# Altium footprint library MicroSMD_50P_V.PcbLib: 85 footprints (part 2 of 7)
Each footprint in its own frame and in the unit in brackets; x right, y up, seen from the top. Pads: shape width x height; smd on the part's side, far side on the other; paste and mask are expansions set on the pad; w line width, h text height; cw(c..) or ccw(c..) is an arc to the next point about the centre after c.
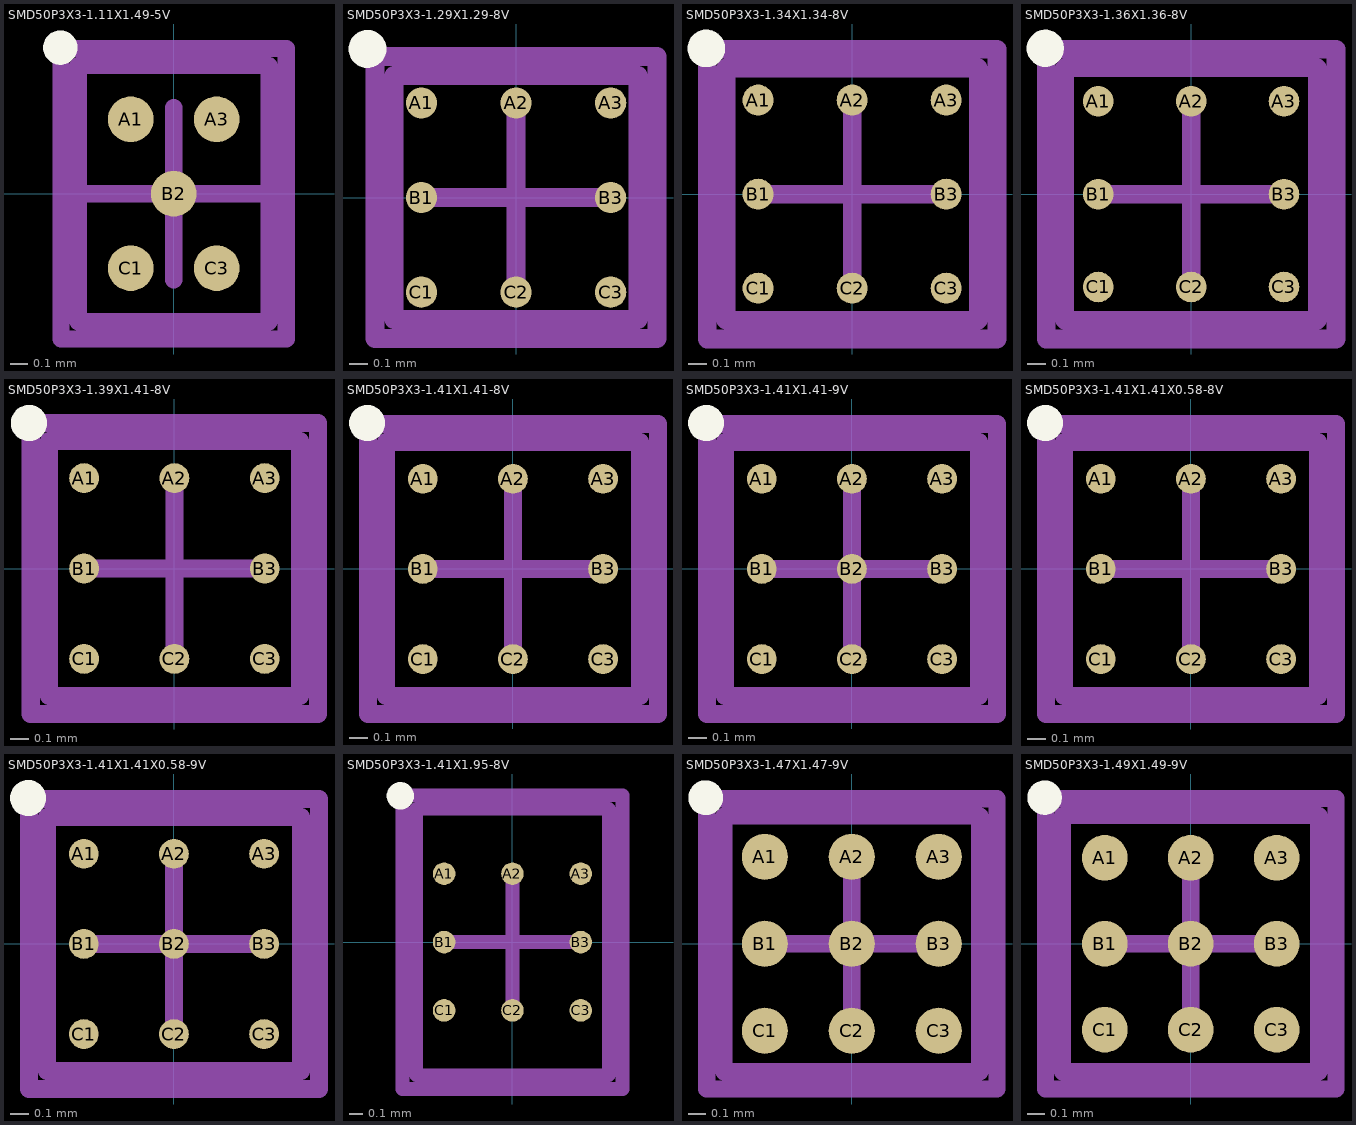
[diagram p1: the footprints below, top view; thin cyan lines are the x and y axes]

## SMD50P3X3-1.11X1.49-5V [mm] "Micro SMD, 5-Leads, Body 1.49x1.11mm, Pitch 0.5mm, NSC Recommended"
height 0.68
pads (5):
  round 0.265 smd paste-0.132 mask+0.05: A1(-0.25,0.433) A3(0.25,0.433) B2(0,0) C1(-0.25,-0.433) C3(0.25,-0.433)
Top Overlay:
  circle w0.1: c-0.66,0.85 r0.05
Top Paste:
  circle w0.05: c-0.35,0.383 r0.025
  circle w0.05: c-0.2,0.533 r0.025
  circle w0.05: c-0.2,0.383 r0.025
  circle w0.05: c-0.35,0.533 r0.025
  circle w0.05: c0.2,0.383 r0.025
  circle w0.05: c0.35,0.533 r0.025
  circle w0.05: c0.35,0.383 r0.025
  circle w0.05: c0.2,0.533 r0.025
  circle w0.05: c-0.075,-0.075 r0.025
  circle w0.05: c0.075,0.075 r0.025
  circle w0.05: c0.075,-0.075 r0.025
  circle w0.05: c-0.075,0.075 r0.025
  circle w0.05: c-0.35,-0.533 r0.025
  circle w0.05: c-0.2,-0.383 r0.025
  circle w0.05: c-0.2,-0.533 r0.025
  circle w0.05: c-0.35,-0.383 r0.025
  circle w0.05: c0.2,-0.533 r0.025
  circle w0.05: c0.35,-0.383 r0.025
  circle w0.05: c0.35,-0.533 r0.025
  circle w0.05: c0.2,-0.383 r0.025
  region: -0.35,0.533 -0.35,0.383 -0.2,0.383 -0.2,0.533
  region: -0.35,0.383 -0.35,0.533 -0.4,0.533 -0.4,0.383
  rectangle: -0.35,0.533 -0.2,0.583
  region: -0.2,0.533 -0.2,0.383 -0.15,0.383 -0.15,0.533
  region: -0.2,0.383 -0.35,0.383 -0.35,0.333 -0.2,0.333
  region: 0.2,0.533 0.2,0.383 0.35,0.383 0.35,0.533
  region: 0.2,0.383 0.2,0.533 0.15,0.533 0.15,0.383
  rectangle: 0.2,0.533 0.35,0.583
  region: 0.35,0.533 0.35,0.383 0.4,0.383 0.4,0.533
  region: 0.35,0.383 0.2,0.383 0.2,0.333 0.35,0.333
  region: -0.075,0.075 -0.075,-0.075 0.075,-0.075 0.075,0.075
  region: -0.075,-0.075 -0.075,0.075 -0.125,0.075 -0.125,-0.075
  rectangle: -0.075,0.075 0.075,0.125
  region: 0.075,0.075 0.075,-0.075 0.125,-0.075 0.125,0.075
  region: 0.075,-0.075 -0.075,-0.075 -0.075,-0.125 0.075,-0.125
  region: -0.35,-0.383 -0.35,-0.533 -0.2,-0.533 -0.2,-0.383
  region: -0.35,-0.533 -0.35,-0.383 -0.4,-0.383 -0.4,-0.533
  rectangle: -0.35,-0.383 -0.2,-0.333
  region: -0.2,-0.383 -0.2,-0.533 -0.15,-0.533 -0.15,-0.383
  region: -0.2,-0.533 -0.35,-0.533 -0.35,-0.583 -0.2,-0.583
  region: 0.2,-0.383 0.2,-0.533 0.35,-0.533 0.35,-0.383
  region: 0.2,-0.533 0.2,-0.383 0.15,-0.383 0.15,-0.533
  rectangle: 0.2,-0.383 0.35,-0.333
  region: 0.35,-0.383 0.35,-0.533 0.4,-0.533 0.4,-0.383
  region: 0.35,-0.533 0.2,-0.533 0.2,-0.583 0.35,-0.583
Mechanical 13:
  lines w0.1: -0.555,-0.745 0.555,-0.745 0.555,0.745 -0.555,0.745 -0.555,-0.745
Mechanical 15:
  lines w0.1: -0.5,0 0.5,0 ; 0,-0.5 0,0.5 ; -0.655,-0.845 0.655,-0.845 0.655,0.845 -0.655,0.845 -0.655,-0.845
3D body: height 0.68, standoff 0, extent -0.555,-0.745 0.555,0.745

## SMD50P3X3-1.29X1.29-8V [mm] "Micro SMD, 8-Leads, Body 1.29x1.29mm, Pitch 0.5mm, NSC Recommended"
height 0.58
pads (8):
  round 0.165 smd paste-0.082 mask+0.05: A1(-0.5,0.5) A2(0,0.5) A3(0.5,0.5) B1(-0.5,0) B3(0.5,0) C1(-0.5,-0.5) C2(0,-0.5) C3(0.5,-0.5)
Top Overlay:
  circle w0.1: c-0.785,0.785 r0.05
Top Paste:
  circle w0.05: c0.625,0.425 r0.025
  circle w0.05: c0.425,0.625 r0.025
  circle w0.05: c0.425,0.425 r0.025
  circle w0.05: c0.625,0.625 r0.025
  circle w0.05: c-0.425,0.425 r0.025
  circle w0.05: c-0.625,0.625 r0.025
  circle w0.05: c-0.625,0.425 r0.025
  circle w0.05: c-0.425,0.625 r0.025
  circle w0.05: c0.1,0.425 r0.025
  circle w0.05: c-0.1,0.625 r0.025
  circle w0.05: c-0.1,0.425 r0.025
  circle w0.05: c0.1,0.625 r0.025
  circle w0.05: c0.1,-0.425 r0.025
  circle w0.05: c-0.1,-0.625 r0.025
  circle w0.05: c-0.1,-0.425 r0.025
  circle w0.05: c0.1,-0.625 r0.025
  circle w0.05: c-0.425,-0.425 r0.025
  circle w0.05: c-0.625,-0.625 r0.025
  circle w0.05: c-0.625,-0.425 r0.025
  circle w0.05: c-0.425,-0.625 r0.025
  circle w0.05: c0.625,-0.425 r0.025
  circle w0.05: c0.425,-0.625 r0.025
  circle w0.05: c0.425,-0.425 r0.025
  circle w0.05: c0.625,-0.625 r0.025
  circle w0.05: c0.625,-0.1 r0.025
  circle w0.05: c0.425,0.1 r0.025
  circle w0.05: c0.425,-0.1 r0.025
  circle w0.05: c0.625,0.1 r0.025
  circle w0.05: c-0.425,0.1 r0.025
  circle w0.05: c-0.625,-0.1 r0.025
  circle w0.05: c-0.625,0.1 r0.025
  circle w0.05: c-0.425,-0.1 r0.025
  rectangle: 0.425,0.375 0.625,0.425
  region: 0.625,0.675 0.425,0.675 0.425,0.625 0.625,0.625
  region: 0.375,0.625 0.375,0.425 0.425,0.425 0.425,0.625
  region: 0.425,0.625 0.425,0.425 0.625,0.425 0.625,0.625
  region: 0.675,0.425 0.675,0.625 0.625,0.625 0.625,0.425
  rectangle: -0.625,0.375 -0.425,0.425
  region: -0.425,0.675 -0.625,0.675 -0.625,0.625 -0.425,0.625
  region: -0.675,0.625 -0.675,0.425 -0.625,0.425 -0.625,0.625
  region: -0.625,0.625 -0.625,0.425 -0.425,0.425 -0.425,0.625
  region: -0.375,0.425 -0.375,0.625 -0.425,0.625 -0.425,0.425
  rectangle: -0.1,0.375 0.1,0.425
  region: 0.1,0.675 -0.1,0.675 -0.1,0.625 0.1,0.625
  region: -0.15,0.625 -0.15,0.425 -0.1,0.425 -0.1,0.625
  region: -0.1,0.625 -0.1,0.425 0.1,0.425 0.1,0.625
  region: 0.15,0.425 0.15,0.625 0.1,0.625 0.1,0.425
  region: 0.15,-0.625 0.15,-0.425 0.1,-0.425 0.1,-0.625
  region: -0.1,-0.425 -0.1,-0.625 0.1,-0.625 0.1,-0.425
  region: -0.15,-0.425 -0.15,-0.625 -0.1,-0.625 -0.1,-0.425
  region: 0.1,-0.375 -0.1,-0.375 -0.1,-0.425 0.1,-0.425
  rectangle: -0.1,-0.675 0.1,-0.625
  region: -0.375,-0.625 -0.375,-0.425 -0.425,-0.425 -0.425,-0.625
  region: -0.625,-0.425 -0.625,-0.625 -0.425,-0.625 -0.425,-0.425
  region: -0.675,-0.425 -0.675,-0.625 -0.625,-0.625 -0.625,-0.425
  region: -0.425,-0.375 -0.625,-0.375 -0.625,-0.425 -0.425,-0.425
  rectangle: -0.625,-0.675 -0.425,-0.625
  region: 0.675,-0.625 0.675,-0.425 0.625,-0.425 0.625,-0.625
  region: 0.425,-0.425 0.425,-0.625 0.625,-0.625 0.625,-0.425
  region: 0.375,-0.425 0.375,-0.625 0.425,-0.625 0.425,-0.425
  region: 0.625,-0.375 0.425,-0.375 0.425,-0.425 0.625,-0.425
  rectangle: 0.425,-0.675 0.625,-0.625
  rectangle: 0.425,-0.15 0.625,-0.1
  region: 0.625,0.15 0.425,0.15 0.425,0.1 0.625,0.1
  region: 0.375,0.1 0.375,-0.1 0.425,-0.1 0.425,0.1
  region: 0.425,0.1 0.425,-0.1 0.625,-0.1 0.625,0.1
  region: 0.675,-0.1 0.675,0.1 0.625,0.1 0.625,-0.1
  region: -0.375,-0.1 -0.375,0.1 -0.425,0.1 -0.425,-0.1
  region: -0.625,0.1 -0.625,-0.1 -0.425,-0.1 -0.425,0.1
  region: -0.675,0.1 -0.675,-0.1 -0.625,-0.1 -0.625,0.1
  region: -0.425,0.15 -0.625,0.15 -0.625,0.1 -0.425,0.1
  rectangle: -0.625,-0.15 -0.425,-0.1
Mechanical 13:
  lines w0.1: -0.645,-0.645 0.645,-0.645 0.645,0.645 -0.645,0.645 -0.645,-0.645
Mechanical 15:
  lines w0.1: -0.5,0 0.5,0 ; 0,-0.5 0,0.5 ; -0.745,-0.745 0.745,-0.745 0.745,0.745 -0.745,0.745 -0.745,-0.745
3D body: height 0.58, standoff 0, extent -0.644,-0.644 0.644,0.644

## SMD50P3X3-1.34X1.34-8V [mm] "Micro SMD, 8-Leads, Body 1.34x1.34mm, Pitch 0.5mm, NSC Recommended"
height 0.95
pads (8):
  round 0.165 smd paste-0.082 mask+0.05: A1(-0.5,0.5) A2(0,0.5) A3(0.5,0.5) B1(-0.5,0) B3(0.5,0) C1(-0.5,-0.5) C2(0,-0.5) C3(0.5,-0.5)
Top Overlay:
  circle w0.1: c-0.775,0.775 r0.05
Top Paste:
  circle w0.05: c-0.625,-0.625 r0.025
  circle w0.05: c-0.425,-0.425 r0.025
  circle w0.05: c-0.625,-0.425 r0.025
  circle w0.05: c-0.425,-0.625 r0.025
  circle w0.05: c0.425,-0.625 r0.025
  circle w0.05: c0.625,-0.425 r0.025
  circle w0.05: c0.425,-0.425 r0.025
  circle w0.05: c0.625,-0.625 r0.025
  circle w0.05: c0.425,0.425 r0.025
  circle w0.05: c0.625,0.625 r0.025
  circle w0.05: c0.425,0.625 r0.025
  circle w0.05: c0.625,0.425 r0.025
  circle w0.05: c-0.625,0.425 r0.025
  circle w0.05: c-0.425,0.625 r0.025
  circle w0.05: c-0.625,0.625 r0.025
  circle w0.05: c-0.425,0.425 r0.025
  circle w0.05: c0.1,0.425 r0.025
  circle w0.05: c-0.1,0.625 r0.025
  circle w0.05: c0.1,0.625 r0.025
  circle w0.05: c-0.1,0.425 r0.025
  circle w0.05: c-0.1,-0.425 r0.025
  circle w0.05: c0.1,-0.625 r0.025
  circle w0.05: c-0.1,-0.625 r0.025
  circle w0.05: c0.1,-0.425 r0.025
  circle w0.05: c0.425,-0.1 r0.025
  circle w0.05: c0.625,0.1 r0.025
  circle w0.05: c0.625,-0.1 r0.025
  circle w0.05: c0.425,0.1 r0.025
  circle w0.05: c-0.425,0.1 r0.025
  circle w0.05: c-0.625,-0.1 r0.025
  circle w0.05: c-0.625,0.1 r0.025
  circle w0.05: c-0.425,-0.1 r0.025
  region: -0.425,-0.625 -0.625,-0.625 -0.625,-0.675 -0.425,-0.675
  rectangle: -0.625,-0.625 -0.425,-0.425
  rectangle: -0.625,-0.425 -0.425,-0.375
  region: -0.625,-0.625 -0.625,-0.425 -0.675,-0.425 -0.675,-0.625
  region: -0.425,-0.425 -0.425,-0.625 -0.375,-0.625 -0.375,-0.425
  region: 0.625,-0.625 0.425,-0.625 0.425,-0.675 0.625,-0.675
  rectangle: 0.425,-0.625 0.625,-0.425
  rectangle: 0.425,-0.425 0.625,-0.375
  region: 0.425,-0.625 0.425,-0.425 0.375,-0.425 0.375,-0.625
  region: 0.625,-0.425 0.625,-0.625 0.675,-0.625 0.675,-0.425
  region: 0.625,0.425 0.425,0.425 0.425,0.375 0.625,0.375
  rectangle: 0.425,0.425 0.625,0.625
  rectangle: 0.425,0.625 0.625,0.675
  region: 0.425,0.425 0.425,0.625 0.375,0.625 0.375,0.425
  region: 0.625,0.625 0.625,0.425 0.675,0.425 0.675,0.625
  region: -0.425,0.425 -0.625,0.425 -0.625,0.375 -0.425,0.375
  rectangle: -0.625,0.425 -0.425,0.625
  rectangle: -0.625,0.625 -0.425,0.675
  region: -0.625,0.425 -0.625,0.625 -0.675,0.625 -0.675,0.425
  region: -0.425,0.625 -0.425,0.425 -0.375,0.425 -0.375,0.625
  region: 0.1,0.625 0.1,0.425 0.15,0.425 0.15,0.625
  region: -0.1,0.425 -0.1,0.625 -0.15,0.625 -0.15,0.425
  rectangle: -0.1,0.625 0.1,0.675
  rectangle: -0.1,0.425 0.1,0.625
  region: 0.1,0.425 -0.1,0.425 -0.1,0.375 0.1,0.375
  region: 0.1,-0.375 -0.1,-0.375 -0.1,-0.425 0.1,-0.425
  rectangle: -0.1,-0.625 0.1,-0.425
  rectangle: -0.1,-0.675 0.1,-0.625
  region: -0.15,-0.425 -0.15,-0.625 -0.1,-0.625 -0.1,-0.425
  region: 0.15,-0.625 0.15,-0.425 0.1,-0.425 0.1,-0.625
  region: 0.375,0.1 0.375,-0.1 0.425,-0.1 0.425,0.1
  region: 0.625,-0.1 0.625,0.1 0.425,0.1 0.425,-0.1
  region: 0.675,-0.1 0.675,0.1 0.625,0.1 0.625,-0.1
  rectangle: 0.425,-0.15 0.625,-0.1
  region: 0.625,0.15 0.425,0.15 0.425,0.1 0.625,0.1
  region: -0.375,-0.1 -0.375,0.1 -0.425,0.1 -0.425,-0.1
  region: -0.625,0.1 -0.625,-0.1 -0.425,-0.1 -0.425,0.1
  region: -0.675,0.1 -0.675,-0.1 -0.625,-0.1 -0.625,0.1
  region: -0.425,0.15 -0.625,0.15 -0.625,0.1 -0.425,0.1
  rectangle: -0.625,-0.15 -0.425,-0.1
Mechanical 13:
  lines w0.1: -0.67,-0.67 0.67,-0.67 0.67,0.67 -0.67,0.67 -0.67,-0.67
Mechanical 15:
  lines w0.1: -0.5,0 0.5,0 ; 0,-0.5 0,0.5 ; -0.77,-0.77 0.77,-0.77 0.77,0.77 -0.77,0.77 -0.77,-0.77
3D body: height 0.95, standoff 0, extent -0.669,-0.669 0.669,0.669

## SMD50P3X3-1.36X1.36-8V [mm] "Micro SMD, 8-Leads, Body 1.36x1.36mm, Pitch 0.5mm, NSC Recommended"
height 0.58
pads (8):
  round 0.165 smd paste-0.082 mask+0.05: A1(-0.5,0.5) A2(0,0.5) A3(0.5,0.5) B1(-0.5,0) B3(0.5,0) C1(-0.5,-0.5) C2(0,-0.5) C3(0.5,-0.5)
Top Overlay:
  circle w0.1: c-0.785,0.785 r0.05
Top Paste:
  circle w0.05: c-0.425,-0.1 r0.025
  circle w0.05: c-0.625,0.1 r0.025
  circle w0.05: c-0.625,-0.1 r0.025
  circle w0.05: c-0.425,0.1 r0.025
  circle w0.05: c0.625,0.1 r0.025
  circle w0.05: c0.425,-0.1 r0.025
  circle w0.05: c0.425,0.1 r0.025
  circle w0.05: c0.625,-0.1 r0.025
  circle w0.05: c0.625,-0.625 r0.025
  circle w0.05: c0.425,-0.425 r0.025
  circle w0.05: c0.425,-0.625 r0.025
  circle w0.05: c0.625,-0.425 r0.025
  circle w0.05: c-0.425,-0.625 r0.025
  circle w0.05: c-0.625,-0.425 r0.025
  circle w0.05: c-0.625,-0.625 r0.025
  circle w0.05: c-0.425,-0.425 r0.025
  circle w0.05: c0.1,-0.625 r0.025
  circle w0.05: c-0.1,-0.425 r0.025
  circle w0.05: c-0.1,-0.625 r0.025
  circle w0.05: c0.1,-0.425 r0.025
  circle w0.05: c0.1,0.625 r0.025
  circle w0.05: c-0.1,0.425 r0.025
  circle w0.05: c-0.1,0.625 r0.025
  circle w0.05: c0.1,0.425 r0.025
  circle w0.05: c-0.425,0.625 r0.025
  circle w0.05: c-0.625,0.425 r0.025
  circle w0.05: c-0.625,0.625 r0.025
  circle w0.05: c-0.425,0.425 r0.025
  circle w0.05: c0.625,0.625 r0.025
  circle w0.05: c0.425,0.425 r0.025
  circle w0.05: c0.425,0.625 r0.025
  circle w0.05: c0.625,0.425 r0.025
  rectangle: -0.625,-0.15 -0.425,-0.1
  region: -0.425,0.15 -0.625,0.15 -0.625,0.1 -0.425,0.1
  region: -0.675,0.1 -0.675,-0.1 -0.625,-0.1 -0.625,0.1
  region: -0.625,0.1 -0.625,-0.1 -0.425,-0.1 -0.425,0.1
  region: -0.375,-0.1 -0.375,0.1 -0.425,0.1 -0.425,-0.1
  region: 0.675,-0.1 0.675,0.1 0.625,0.1 0.625,-0.1
  region: 0.425,0.1 0.425,-0.1 0.625,-0.1 0.625,0.1
  region: 0.375,0.1 0.375,-0.1 0.425,-0.1 0.425,0.1
  region: 0.625,0.15 0.425,0.15 0.425,0.1 0.625,0.1
  rectangle: 0.425,-0.15 0.625,-0.1
  rectangle: 0.425,-0.675 0.625,-0.625
  region: 0.625,-0.375 0.425,-0.375 0.425,-0.425 0.625,-0.425
  region: 0.375,-0.425 0.375,-0.625 0.425,-0.625 0.425,-0.425
  region: 0.425,-0.425 0.425,-0.625 0.625,-0.625 0.625,-0.425
  region: 0.675,-0.625 0.675,-0.425 0.625,-0.425 0.625,-0.625
  rectangle: -0.625,-0.675 -0.425,-0.625
  region: -0.425,-0.375 -0.625,-0.375 -0.625,-0.425 -0.425,-0.425
  region: -0.675,-0.425 -0.675,-0.625 -0.625,-0.625 -0.625,-0.425
  region: -0.625,-0.425 -0.625,-0.625 -0.425,-0.625 -0.425,-0.425
  region: -0.375,-0.625 -0.375,-0.425 -0.425,-0.425 -0.425,-0.625
  rectangle: -0.1,-0.675 0.1,-0.625
  region: 0.1,-0.375 -0.1,-0.375 -0.1,-0.425 0.1,-0.425
  region: -0.15,-0.425 -0.15,-0.625 -0.1,-0.625 -0.1,-0.425
  region: -0.1,-0.425 -0.1,-0.625 0.1,-0.625 0.1,-0.425
  region: 0.15,-0.625 0.15,-0.425 0.1,-0.425 0.1,-0.625
  region: 0.15,0.425 0.15,0.625 0.1,0.625 0.1,0.425
  region: -0.1,0.625 -0.1,0.425 0.1,0.425 0.1,0.625
  region: -0.15,0.625 -0.15,0.425 -0.1,0.425 -0.1,0.625
  region: 0.1,0.675 -0.1,0.675 -0.1,0.625 0.1,0.625
  rectangle: -0.1,0.375 0.1,0.425
  region: -0.375,0.425 -0.375,0.625 -0.425,0.625 -0.425,0.425
  region: -0.625,0.625 -0.625,0.425 -0.425,0.425 -0.425,0.625
  region: -0.675,0.625 -0.675,0.425 -0.625,0.425 -0.625,0.625
  region: -0.425,0.675 -0.625,0.675 -0.625,0.625 -0.425,0.625
  rectangle: -0.625,0.375 -0.425,0.425
  region: 0.675,0.425 0.675,0.625 0.625,0.625 0.625,0.425
  region: 0.425,0.625 0.425,0.425 0.625,0.425 0.625,0.625
  region: 0.375,0.625 0.375,0.425 0.425,0.425 0.425,0.625
  region: 0.625,0.675 0.425,0.675 0.425,0.625 0.625,0.625
  rectangle: 0.425,0.375 0.625,0.425
Mechanical 13:
  lines w0.1: -0.68,-0.68 -0.68,0.68 0.68,0.68 0.68,-0.68 -0.68,-0.68
Mechanical 15:
  lines w0.1: -0.5,0 0.5,0 ; 0,-0.5 0,0.5 ; -0.78,-0.78 -0.78,0.78 0.78,0.78 0.78,-0.78 -0.78,-0.78
3D body: height 0.58, standoff 0, extent -0.679,-0.679 0.679,0.679

## SMD50P3X3-1.39X1.41-8V [mm] "Micro SMD, 8-Leads, Body 1.41x1.39mm, Pitch 0.5mm, NSC Recommended"
height 0.95
pads (8):
  round 0.165 smd paste-0.082 mask+0.05: A1(-0.5,0.5) A2(0,0.5) A3(0.5,0.5) B1(-0.5,0) B3(0.5,0) C1(-0.5,-0.5) C2(0,-0.5) C3(0.5,-0.5)
Top Overlay:
  circle w0.1: c-0.805,0.805 r0.05
Top Paste:
  circle w0.05: c0.625,-0.1 r0.025
  circle w0.05: c0.425,0.1 r0.025
  circle w0.05: c0.625,0.1 r0.025
  circle w0.05: c0.425,-0.1 r0.025
  circle w0.05: c-0.1,-0.625 r0.025
  circle w0.05: c0.1,-0.425 r0.025
  circle w0.05: c0.1,-0.625 r0.025
  circle w0.05: c-0.1,-0.425 r0.025
  circle w0.05: c-0.625,0.1 r0.025
  circle w0.05: c-0.425,-0.1 r0.025
  circle w0.05: c-0.625,-0.1 r0.025
  circle w0.05: c-0.425,0.1 r0.025
  circle w0.05: c0.1,0.625 r0.025
  circle w0.05: c-0.1,0.425 r0.025
  circle w0.05: c-0.1,0.625 r0.025
  circle w0.05: c0.1,0.425 r0.025
  circle w0.05: c0.625,0.425 r0.025
  circle w0.05: c0.425,0.625 r0.025
  circle w0.05: c0.625,0.625 r0.025
  circle w0.05: c0.425,0.425 r0.025
  circle w0.05: c0.425,-0.625 r0.025
  circle w0.05: c0.625,-0.425 r0.025
  circle w0.05: c0.625,-0.625 r0.025
  circle w0.05: c0.425,-0.425 r0.025
  circle w0.05: c-0.625,-0.425 r0.025
  circle w0.05: c-0.425,-0.625 r0.025
  circle w0.05: c-0.625,-0.625 r0.025
  circle w0.05: c-0.425,-0.425 r0.025
  circle w0.05: c-0.425,0.625 r0.025
  circle w0.05: c-0.625,0.425 r0.025
  circle w0.05: c-0.625,0.625 r0.025
  circle w0.05: c-0.425,0.425 r0.025
  rectangle: 0.425,-0.15 0.625,-0.1
  region: 0.625,0.1 0.425,0.1 0.425,-0.1 0.625,-0.1
  region: 0.625,0.15 0.425,0.15 0.425,0.1 0.625,0.1
  region: 0.675,-0.1 0.675,0.1 0.625,0.1 0.625,-0.1
  region: 0.375,0.1 0.375,-0.1 0.425,-0.1 0.425,0.1
  region: -0.15,-0.425 -0.15,-0.625 -0.1,-0.625 -0.1,-0.425
  region: 0.1,-0.625 0.1,-0.425 -0.1,-0.425 -0.1,-0.625
  region: 0.15,-0.625 0.15,-0.425 0.1,-0.425 0.1,-0.625
  rectangle: -0.1,-0.675 0.1,-0.625
  region: 0.1,-0.375 -0.1,-0.375 -0.1,-0.425 0.1,-0.425
  region: -0.425,0.15 -0.625,0.15 -0.625,0.1 -0.425,0.1
  rectangle: -0.625,-0.1 -0.425,0.1
  rectangle: -0.625,-0.15 -0.425,-0.1
  region: -0.675,0.1 -0.675,-0.1 -0.625,-0.1 -0.625,0.1
  region: -0.375,-0.1 -0.375,0.1 -0.425,0.1 -0.425,-0.1
  region: 0.15,0.425 0.15,0.625 0.1,0.625 0.1,0.425
  region: -0.1,0.625 -0.1,0.425 0.1,0.425 0.1,0.625
  region: -0.15,0.625 -0.15,0.425 -0.1,0.425 -0.1,0.625
  region: 0.1,0.675 -0.1,0.675 -0.1,0.625 0.1,0.625
  rectangle: -0.1,0.375 0.1,0.425
  rectangle: 0.425,0.375 0.625,0.425
  region: 0.625,0.625 0.425,0.625 0.425,0.425 0.625,0.425
  region: 0.625,0.675 0.425,0.675 0.425,0.625 0.625,0.625
  region: 0.675,0.425 0.675,0.625 0.625,0.625 0.625,0.425
  region: 0.375,0.625 0.375,0.425 0.425,0.425 0.425,0.625
  region: 0.375,-0.425 0.375,-0.625 0.425,-0.625 0.425,-0.425
  region: 0.625,-0.625 0.625,-0.425 0.425,-0.425 0.425,-0.625
  region: 0.675,-0.625 0.675,-0.425 0.625,-0.425 0.625,-0.625
  rectangle: 0.425,-0.675 0.625,-0.625
  region: 0.625,-0.375 0.425,-0.375 0.425,-0.425 0.625,-0.425
  region: -0.425,-0.375 -0.625,-0.375 -0.625,-0.425 -0.425,-0.425
  rectangle: -0.625,-0.625 -0.425,-0.425
  rectangle: -0.625,-0.675 -0.425,-0.625
  region: -0.675,-0.425 -0.675,-0.625 -0.625,-0.625 -0.625,-0.425
  region: -0.375,-0.625 -0.375,-0.425 -0.425,-0.425 -0.425,-0.625
  region: -0.375,0.425 -0.375,0.625 -0.425,0.625 -0.425,0.425
  region: -0.625,0.625 -0.625,0.425 -0.425,0.425 -0.425,0.625
  region: -0.675,0.625 -0.675,0.425 -0.625,0.425 -0.625,0.625
  region: -0.425,0.675 -0.625,0.675 -0.625,0.625 -0.425,0.625
  rectangle: -0.625,0.375 -0.425,0.425
Mechanical 13:
  lines w0.1: -0.695,-0.705 0.695,-0.705 0.695,0.705 -0.695,0.705 -0.695,-0.705
Mechanical 15:
  lines w0.1: -0.5,0 0.5,0 ; 0,-0.5 0,0.5 ; -0.795,-0.805 0.795,-0.805 0.795,0.805 -0.795,0.805 -0.795,-0.805
3D body: height 0.95, standoff 0, extent -0.694,-0.704 0.694,0.704

## SMD50P3X3-1.41X1.41-8V [mm] "Micro SMD, 8-Leads, Body 1.41x1.41mm, Pitch 0.5mm, NSC Recommended"
height 0.95
pads (8):
  round 0.165 smd paste-0.082 mask+0.05: A1(-0.5,0.5) A2(0,0.5) A3(0.5,0.5) B1(-0.5,0) B3(0.5,0) C1(-0.5,-0.5) C2(0,-0.5) C3(0.5,-0.5)
Top Overlay:
  circle w0.1: c-0.81,0.81 r0.05
Top Paste:
  circle w0.05: c-0.425,-0.1 r0.025
  circle w0.05: c-0.625,0.1 r0.025
  circle w0.05: c-0.625,-0.1 r0.025
  circle w0.05: c-0.425,0.1 r0.025
  circle w0.05: c0.625,0.1 r0.025
  circle w0.05: c0.425,-0.1 r0.025
  circle w0.05: c0.425,0.1 r0.025
  circle w0.05: c0.625,-0.1 r0.025
  circle w0.05: c0.625,-0.625 r0.025
  circle w0.05: c0.425,-0.425 r0.025
  circle w0.05: c0.425,-0.625 r0.025
  circle w0.05: c0.625,-0.425 r0.025
  circle w0.05: c-0.425,-0.625 r0.025
  circle w0.05: c-0.625,-0.425 r0.025
  circle w0.05: c-0.625,-0.625 r0.025
  circle w0.05: c-0.425,-0.425 r0.025
  circle w0.05: c0.1,-0.625 r0.025
  circle w0.05: c-0.1,-0.425 r0.025
  circle w0.05: c-0.1,-0.625 r0.025
  circle w0.05: c0.1,-0.425 r0.025
  circle w0.05: c0.1,0.625 r0.025
  circle w0.05: c-0.1,0.425 r0.025
  circle w0.05: c-0.1,0.625 r0.025
  circle w0.05: c0.1,0.425 r0.025
  circle w0.05: c-0.425,0.625 r0.025
  circle w0.05: c-0.625,0.425 r0.025
  circle w0.05: c-0.625,0.625 r0.025
  circle w0.05: c-0.425,0.425 r0.025
  circle w0.05: c0.625,0.625 r0.025
  circle w0.05: c0.425,0.425 r0.025
  circle w0.05: c0.425,0.625 r0.025
  circle w0.05: c0.625,0.425 r0.025
  rectangle: -0.625,-0.15 -0.425,-0.1
  region: -0.425,0.15 -0.625,0.15 -0.625,0.1 -0.425,0.1
  region: -0.675,0.1 -0.675,-0.1 -0.625,-0.1 -0.625,0.1
  region: -0.625,0.1 -0.625,-0.1 -0.425,-0.1 -0.425,0.1
  region: -0.375,-0.1 -0.375,0.1 -0.425,0.1 -0.425,-0.1
  region: 0.675,-0.1 0.675,0.1 0.625,0.1 0.625,-0.1
  region: 0.425,0.1 0.425,-0.1 0.625,-0.1 0.625,0.1
  region: 0.375,0.1 0.375,-0.1 0.425,-0.1 0.425,0.1
  region: 0.625,0.15 0.425,0.15 0.425,0.1 0.625,0.1
  rectangle: 0.425,-0.15 0.625,-0.1
  rectangle: 0.425,-0.675 0.625,-0.625
  region: 0.625,-0.375 0.425,-0.375 0.425,-0.425 0.625,-0.425
  region: 0.375,-0.425 0.375,-0.625 0.425,-0.625 0.425,-0.425
  region: 0.425,-0.425 0.425,-0.625 0.625,-0.625 0.625,-0.425
  region: 0.675,-0.625 0.675,-0.425 0.625,-0.425 0.625,-0.625
  rectangle: -0.625,-0.675 -0.425,-0.625
  region: -0.425,-0.375 -0.625,-0.375 -0.625,-0.425 -0.425,-0.425
  region: -0.675,-0.425 -0.675,-0.625 -0.625,-0.625 -0.625,-0.425
  region: -0.625,-0.425 -0.625,-0.625 -0.425,-0.625 -0.425,-0.425
  region: -0.375,-0.625 -0.375,-0.425 -0.425,-0.425 -0.425,-0.625
  rectangle: -0.1,-0.675 0.1,-0.625
  region: 0.1,-0.375 -0.1,-0.375 -0.1,-0.425 0.1,-0.425
  region: -0.15,-0.425 -0.15,-0.625 -0.1,-0.625 -0.1,-0.425
  region: -0.1,-0.425 -0.1,-0.625 0.1,-0.625 0.1,-0.425
  region: 0.15,-0.625 0.15,-0.425 0.1,-0.425 0.1,-0.625
  region: 0.15,0.425 0.15,0.625 0.1,0.625 0.1,0.425
  region: -0.1,0.625 -0.1,0.425 0.1,0.425 0.1,0.625
  region: -0.15,0.625 -0.15,0.425 -0.1,0.425 -0.1,0.625
  region: 0.1,0.675 -0.1,0.675 -0.1,0.625 0.1,0.625
  rectangle: -0.1,0.375 0.1,0.425
  region: -0.375,0.425 -0.375,0.625 -0.425,0.625 -0.425,0.425
  region: -0.625,0.625 -0.625,0.425 -0.425,0.425 -0.425,0.625
  region: -0.675,0.625 -0.675,0.425 -0.625,0.425 -0.625,0.625
  region: -0.425,0.675 -0.625,0.675 -0.625,0.625 -0.425,0.625
  rectangle: -0.625,0.375 -0.425,0.425
  region: 0.675,0.425 0.675,0.625 0.625,0.625 0.625,0.425
  region: 0.425,0.625 0.425,0.425 0.625,0.425 0.625,0.625
  region: 0.375,0.625 0.375,0.425 0.425,0.425 0.425,0.625
  region: 0.625,0.675 0.425,0.675 0.425,0.625 0.625,0.625
  rectangle: 0.425,0.375 0.625,0.425
Mechanical 13:
  lines w0.1: -0.705,-0.705 -0.705,0.705 0.705,0.705 0.705,-0.705 -0.705,-0.705
Mechanical 15:
  lines w0.1: -0.5,0 0.5,0 ; 0,-0.5 0,0.5 ; -0.805,-0.805 -0.805,0.805 0.805,0.805 0.805,-0.805 -0.805,-0.805
3D body: height 0.95, standoff 0, extent -0.704,-0.704 0.704,0.704

## SMD50P3X3-1.41X1.41-9V [mm] "Micro SMD, 9-Leads, Body 1.41x1.41mm, Pitch 0.5mm, NSC Recommended"
height 0.95
pads (9):
  round 0.165 smd paste-0.082 mask+0.05: A1(-0.5,0.5) A2(0,0.5) A3(0.5,0.5) B1(-0.5,0) B2(0,0) B3(0.5,0) C1(-0.5,-0.5) C2(0,-0.5) C3(0.5,-0.5)
Top Overlay:
  circle w0.1: c-0.81,0.81 r0.05
Top Paste:
  circle w0.05: c-0.425,-0.1 r0.025
  circle w0.05: c-0.625,0.1 r0.025
  circle w0.05: c-0.625,-0.1 r0.025
  circle w0.05: c-0.425,0.1 r0.025
  circle w0.05: c0.625,0.1 r0.025
  circle w0.05: c0.425,-0.1 r0.025
  circle w0.05: c0.425,0.1 r0.025
  circle w0.05: c0.625,-0.1 r0.025
  circle w0.05: c0.625,-0.625 r0.025
  circle w0.05: c0.425,-0.425 r0.025
  circle w0.05: c0.425,-0.625 r0.025
  circle w0.05: c0.625,-0.425 r0.025
  circle w0.05: c-0.425,-0.625 r0.025
  circle w0.05: c-0.625,-0.425 r0.025
  circle w0.05: c-0.625,-0.625 r0.025
  circle w0.05: c-0.425,-0.425 r0.025
  circle w0.05: c0.1,-0.625 r0.025
  circle w0.05: c-0.1,-0.425 r0.025
  circle w0.05: c-0.1,-0.625 r0.025
  circle w0.05: c0.1,-0.425 r0.025
  circle w0.05: c0.1,0.625 r0.025
  circle w0.05: c-0.1,0.425 r0.025
  circle w0.05: c-0.1,0.625 r0.025
  circle w0.05: c0.1,0.425 r0.025
  circle w0.05: c-0.425,0.625 r0.025
  circle w0.05: c-0.625,0.425 r0.025
  circle w0.05: c-0.625,0.625 r0.025
  circle w0.05: c-0.425,0.425 r0.025
  circle w0.05: c0.625,0.625 r0.025
  circle w0.05: c0.425,0.425 r0.025
  circle w0.05: c0.425,0.625 r0.025
  circle w0.05: c0.625,0.425 r0.025
  circle w0.05: c0.1,0.1 r0.025
  circle w0.05: c-0.1,-0.1 r0.025
  circle w0.05: c-0.1,0.1 r0.025
  circle w0.05: c0.1,-0.1 r0.025
  rectangle: -0.625,-0.15 -0.425,-0.1
  region: -0.425,0.15 -0.625,0.15 -0.625,0.1 -0.425,0.1
  region: -0.675,0.1 -0.675,-0.1 -0.625,-0.1 -0.625,0.1
  region: -0.625,0.1 -0.625,-0.1 -0.425,-0.1 -0.425,0.1
  region: -0.375,-0.1 -0.375,0.1 -0.425,0.1 -0.425,-0.1
  region: 0.675,-0.1 0.675,0.1 0.625,0.1 0.625,-0.1
  region: 0.425,0.1 0.425,-0.1 0.625,-0.1 0.625,0.1
  region: 0.375,0.1 0.375,-0.1 0.425,-0.1 0.425,0.1
  region: 0.625,0.15 0.425,0.15 0.425,0.1 0.625,0.1
  rectangle: 0.425,-0.15 0.625,-0.1
  rectangle: 0.425,-0.675 0.625,-0.625
  region: 0.625,-0.375 0.425,-0.375 0.425,-0.425 0.625,-0.425
  region: 0.375,-0.425 0.375,-0.625 0.425,-0.625 0.425,-0.425
  region: 0.425,-0.425 0.425,-0.625 0.625,-0.625 0.625,-0.425
  region: 0.675,-0.625 0.675,-0.425 0.625,-0.425 0.625,-0.625
  rectangle: -0.625,-0.675 -0.425,-0.625
  region: -0.425,-0.375 -0.625,-0.375 -0.625,-0.425 -0.425,-0.425
  region: -0.675,-0.425 -0.675,-0.625 -0.625,-0.625 -0.625,-0.425
  region: -0.625,-0.425 -0.625,-0.625 -0.425,-0.625 -0.425,-0.425
  region: -0.375,-0.625 -0.375,-0.425 -0.425,-0.425 -0.425,-0.625
  rectangle: -0.1,-0.675 0.1,-0.625
  region: 0.1,-0.375 -0.1,-0.375 -0.1,-0.425 0.1,-0.425
  region: -0.15,-0.425 -0.15,-0.625 -0.1,-0.625 -0.1,-0.425
  region: -0.1,-0.425 -0.1,-0.625 0.1,-0.625 0.1,-0.425
  region: 0.15,-0.625 0.15,-0.425 0.1,-0.425 0.1,-0.625
  region: 0.15,0.425 0.15,0.625 0.1,0.625 0.1,0.425
  region: -0.1,0.625 -0.1,0.425 0.1,0.425 0.1,0.625
  region: -0.15,0.625 -0.15,0.425 -0.1,0.425 -0.1,0.625
  region: 0.1,0.675 -0.1,0.675 -0.1,0.625 0.1,0.625
  rectangle: -0.1,0.375 0.1,0.425
  region: -0.375,0.425 -0.375,0.625 -0.425,0.625 -0.425,0.425
  region: -0.625,0.625 -0.625,0.425 -0.425,0.425 -0.425,0.625
  region: -0.675,0.625 -0.675,0.425 -0.625,0.425 -0.625,0.625
  region: -0.425,0.675 -0.625,0.675 -0.625,0.625 -0.425,0.625
  rectangle: -0.625,0.375 -0.425,0.425
  region: 0.675,0.425 0.675,0.625 0.625,0.625 0.625,0.425
  region: 0.425,0.625 0.425,0.425 0.625,0.425 0.625,0.625
  region: 0.375,0.625 0.375,0.425 0.425,0.425 0.425,0.625
  region: 0.625,0.675 0.425,0.675 0.425,0.625 0.625,0.625
  rectangle: 0.425,0.375 0.625,0.425
  region: 0.15,-0.1 0.15,0.1 0.1,0.1 0.1,-0.1
  region: -0.1,0.1 -0.1,-0.1 0.1,-0.1 0.1,0.1
  region: -0.15,0.1 -0.15,-0.1 -0.1,-0.1 -0.1,0.1
  region: 0.1,0.15 -0.1,0.15 -0.1,0.1 0.1,0.1
  rectangle: -0.1,-0.15 0.1,-0.1
Mechanical 13:
  lines w0.1: -0.705,-0.705 0.705,-0.705 0.705,0.705 -0.705,0.705 -0.705,-0.705
Mechanical 15:
  lines w0.1: -0.5,0 0.5,0 ; 0,-0.5 0,0.5 ; -0.805,-0.805 0.805,-0.805 0.805,0.805 -0.805,0.805 -0.805,-0.805
3D body: height 0.95, standoff 0, extent -0.704,-0.704 0.704,0.704

## SMD50P3X3-1.41X1.41X0.58-8V [mm] "Micro SMD, 8-Leads, Body 1.41x1.41mm, Pitch 0.5mm, NSC Recommended"
height 0.58
pads (8):
  round 0.165 smd paste-0.082 mask+0.05: A1(-0.5,0.5) A2(0,0.5) A3(0.5,0.5) B1(-0.5,0) B3(0.5,0) C1(-0.5,-0.5) C2(0,-0.5) C3(0.5,-0.5)
Top Overlay:
  circle w0.1: c-0.81,0.81 r0.05
Top Paste:
  circle w0.05: c-0.425,0.425 r0.025
  circle w0.05: c-0.625,0.625 r0.025
  circle w0.05: c-0.425,0.625 r0.025
  circle w0.05: c-0.625,0.425 r0.025
  circle w0.05: c0.1,0.425 r0.025
  circle w0.05: c-0.1,0.625 r0.025
  circle w0.05: c0.1,0.625 r0.025
  circle w0.05: c-0.1,0.425 r0.025
  circle w0.05: c0.625,0.425 r0.025
  circle w0.05: c0.425,0.625 r0.025
  circle w0.05: c0.625,0.625 r0.025
  circle w0.05: c0.425,0.425 r0.025
  circle w0.05: c-0.425,-0.1 r0.025
  circle w0.05: c-0.625,0.1 r0.025
  circle w0.05: c-0.425,0.1 r0.025
  circle w0.05: c-0.625,-0.1 r0.025
  circle w0.05: c0.625,-0.1 r0.025
  circle w0.05: c0.425,0.1 r0.025
  circle w0.05: c0.625,0.1 r0.025
  circle w0.05: c0.425,-0.1 r0.025
  circle w0.05: c-0.425,-0.625 r0.025
  circle w0.05: c-0.625,-0.425 r0.025
  circle w0.05: c-0.425,-0.425 r0.025
  circle w0.05: c-0.625,-0.625 r0.025
  circle w0.05: c0.1,-0.625 r0.025
  circle w0.05: c-0.1,-0.425 r0.025
  circle w0.05: c0.1,-0.425 r0.025
  circle w0.05: c-0.1,-0.625 r0.025
  circle w0.05: c0.625,-0.625 r0.025
  circle w0.05: c0.425,-0.425 r0.025
  circle w0.05: c0.625,-0.425 r0.025
  circle w0.05: c0.425,-0.625 r0.025
  region: -0.425,0.625 -0.425,0.425 -0.375,0.425 -0.375,0.625
  region: -0.625,0.425 -0.625,0.625 -0.675,0.625 -0.675,0.425
  rectangle: -0.625,0.625 -0.425,0.675
  rectangle: -0.625,0.425 -0.425,0.625
  region: -0.425,0.425 -0.625,0.425 -0.625,0.375 -0.425,0.375
  region: 0.1,0.625 0.1,0.425 0.15,0.425 0.15,0.625
  region: -0.1,0.425 -0.1,0.625 -0.15,0.625 -0.15,0.425
  rectangle: -0.1,0.625 0.1,0.675
  rectangle: -0.1,0.425 0.1,0.625
  region: 0.1,0.425 -0.1,0.425 -0.1,0.375 0.1,0.375
  region: 0.625,0.625 0.625,0.425 0.675,0.425 0.675,0.625
  region: 0.425,0.425 0.425,0.625 0.375,0.625 0.375,0.425
  rectangle: 0.425,0.625 0.625,0.675
  rectangle: 0.425,0.425 0.625,0.625
  region: 0.625,0.425 0.425,0.425 0.425,0.375 0.625,0.375
  region: -0.425,0.1 -0.425,-0.1 -0.375,-0.1 -0.375,0.1
  region: -0.625,-0.1 -0.625,0.1 -0.675,0.1 -0.675,-0.1
  rectangle: -0.625,0.1 -0.425,0.15
  rectangle: -0.625,-0.1 -0.425,0.1
  region: -0.425,-0.1 -0.625,-0.1 -0.625,-0.15 -0.425,-0.15
  region: 0.625,0.1 0.625,-0.1 0.675,-0.1 0.675,0.1
  region: 0.425,-0.1 0.425,0.1 0.375,0.1 0.375,-0.1
  rectangle: 0.425,0.1 0.625,0.15
  rectangle: 0.425,-0.1 0.625,0.1
  region: 0.625,-0.1 0.425,-0.1 0.425,-0.15 0.625,-0.15
  region: -0.425,-0.425 -0.425,-0.625 -0.375,-0.625 -0.375,-0.425
  region: -0.625,-0.625 -0.625,-0.425 -0.675,-0.425 -0.675,-0.625
  rectangle: -0.625,-0.425 -0.425,-0.375
  rectangle: -0.625,-0.625 -0.425,-0.425
  region: -0.425,-0.625 -0.625,-0.625 -0.625,-0.675 -0.425,-0.675
  region: 0.1,-0.425 0.1,-0.625 0.15,-0.625 0.15,-0.425
  region: -0.1,-0.625 -0.1,-0.425 -0.15,-0.425 -0.15,-0.625
  rectangle: -0.1,-0.425 0.1,-0.375
  rectangle: -0.1,-0.625 0.1,-0.425
  region: 0.1,-0.625 -0.1,-0.625 -0.1,-0.675 0.1,-0.675
  region: 0.625,-0.425 0.625,-0.625 0.675,-0.625 0.675,-0.425
  region: 0.425,-0.625 0.425,-0.425 0.375,-0.425 0.375,-0.625
  rectangle: 0.425,-0.425 0.625,-0.375
  rectangle: 0.425,-0.625 0.625,-0.425
  region: 0.625,-0.625 0.425,-0.625 0.425,-0.675 0.625,-0.675
Mechanical 13:
  lines w0.1: -0.705,-0.705 -0.705,0.705 0.705,0.705 0.705,-0.705 -0.705,-0.705
Mechanical 15:
  lines w0.1: -0.5,0 0.5,0 ; 0,-0.5 0,0.5 ; -0.805,-0.805 -0.805,0.805 0.805,0.805 0.805,-0.805 -0.805,-0.805
3D body: height 0.58, standoff 0, extent -0.705,-0.705 0.705,0.705

## SMD50P3X3-1.41X1.41X0.58-9V [mm] "Micro SMD, 9-Leads, Body 1.41x1.41mm, Pitch 0.5mm, NSC Recommended"
height 0.58
pads (9):
  round 0.165 smd paste-0.082 mask+0.05: A1(-0.5,0.5) A2(0,0.5) A3(0.5,0.5) B1(-0.5,0) B2(0,0) B3(0.5,0) C1(-0.5,-0.5) C2(0,-0.5) C3(0.5,-0.5)
Top Overlay:
  circle w0.1: c-0.81,0.81 r0.05
Top Paste:
  circle w0.05: c-0.425,0.425 r0.025
  circle w0.05: c-0.625,0.625 r0.025
  circle w0.05: c-0.425,0.625 r0.025
  circle w0.05: c-0.625,0.425 r0.025
  circle w0.05: c0.1,0.425 r0.025
  circle w0.05: c-0.1,0.625 r0.025
  circle w0.05: c0.1,0.625 r0.025
  circle w0.05: c-0.1,0.425 r0.025
  circle w0.05: c0.625,0.425 r0.025
  circle w0.05: c0.425,0.625 r0.025
  circle w0.05: c0.625,0.625 r0.025
  circle w0.05: c0.425,0.425 r0.025
  circle w0.05: c-0.425,-0.1 r0.025
  circle w0.05: c-0.625,0.1 r0.025
  circle w0.05: c-0.425,0.1 r0.025
  circle w0.05: c-0.625,-0.1 r0.025
  circle w0.05: c0.1,-0.1 r0.025
  circle w0.05: c-0.1,0.1 r0.025
  circle w0.05: c0.1,0.1 r0.025
  circle w0.05: c-0.1,-0.1 r0.025
  circle w0.05: c0.625,-0.1 r0.025
  circle w0.05: c0.425,0.1 r0.025
  circle w0.05: c0.625,0.1 r0.025
  circle w0.05: c0.425,-0.1 r0.025
  circle w0.05: c-0.425,-0.625 r0.025
  circle w0.05: c-0.625,-0.425 r0.025
  circle w0.05: c-0.425,-0.425 r0.025
  circle w0.05: c-0.625,-0.625 r0.025
  circle w0.05: c0.1,-0.625 r0.025
  circle w0.05: c-0.1,-0.425 r0.025
  circle w0.05: c0.1,-0.425 r0.025
  circle w0.05: c-0.1,-0.625 r0.025
  circle w0.05: c0.625,-0.625 r0.025
  circle w0.05: c0.425,-0.425 r0.025
  circle w0.05: c0.625,-0.425 r0.025
  circle w0.05: c0.425,-0.625 r0.025
  region: -0.425,0.625 -0.425,0.425 -0.375,0.425 -0.375,0.625
  region: -0.625,0.425 -0.625,0.625 -0.675,0.625 -0.675,0.425
  rectangle: -0.625,0.625 -0.425,0.675
  rectangle: -0.625,0.425 -0.425,0.625
  region: -0.425,0.425 -0.625,0.425 -0.625,0.375 -0.425,0.375
  region: 0.1,0.625 0.1,0.425 0.15,0.425 0.15,0.625
  region: -0.1,0.425 -0.1,0.625 -0.15,0.625 -0.15,0.425
  rectangle: -0.1,0.625 0.1,0.675
  rectangle: -0.1,0.425 0.1,0.625
  region: 0.1,0.425 -0.1,0.425 -0.1,0.375 0.1,0.375
  region: 0.625,0.625 0.625,0.425 0.675,0.425 0.675,0.625
  region: 0.425,0.425 0.425,0.625 0.375,0.625 0.375,0.425
  rectangle: 0.425,0.625 0.625,0.675
  rectangle: 0.425,0.425 0.625,0.625
  region: 0.625,0.425 0.425,0.425 0.425,0.375 0.625,0.375
  region: -0.425,0.1 -0.425,-0.1 -0.375,-0.1 -0.375,0.1
  region: -0.625,-0.1 -0.625,0.1 -0.675,0.1 -0.675,-0.1
  rectangle: -0.625,0.1 -0.425,0.15
  rectangle: -0.625,-0.1 -0.425,0.1
  region: -0.425,-0.1 -0.625,-0.1 -0.625,-0.15 -0.425,-0.15
  region: 0.1,0.1 0.1,-0.1 0.15,-0.1 0.15,0.1
  region: -0.1,-0.1 -0.1,0.1 -0.15,0.1 -0.15,-0.1
  rectangle: -0.1,0.1 0.1,0.15
  rectangle: -0.1,-0.1 0.1,0.1
  region: 0.1,-0.1 -0.1,-0.1 -0.1,-0.15 0.1,-0.15
  region: 0.625,0.1 0.625,-0.1 0.675,-0.1 0.675,0.1
  region: 0.425,-0.1 0.425,0.1 0.375,0.1 0.375,-0.1
  rectangle: 0.425,0.1 0.625,0.15
  rectangle: 0.425,-0.1 0.625,0.1
  region: 0.625,-0.1 0.425,-0.1 0.425,-0.15 0.625,-0.15
  region: -0.425,-0.425 -0.425,-0.625 -0.375,-0.625 -0.375,-0.425
  region: -0.625,-0.625 -0.625,-0.425 -0.675,-0.425 -0.675,-0.625
  rectangle: -0.625,-0.425 -0.425,-0.375
  rectangle: -0.625,-0.625 -0.425,-0.425
  region: -0.425,-0.625 -0.625,-0.625 -0.625,-0.675 -0.425,-0.675
  region: 0.1,-0.425 0.1,-0.625 0.15,-0.625 0.15,-0.425
  region: -0.1,-0.625 -0.1,-0.425 -0.15,-0.425 -0.15,-0.625
  rectangle: -0.1,-0.425 0.1,-0.375
  rectangle: -0.1,-0.625 0.1,-0.425
  region: 0.1,-0.625 -0.1,-0.625 -0.1,-0.675 0.1,-0.675
  region: 0.625,-0.425 0.625,-0.625 0.675,-0.625 0.675,-0.425
  region: 0.425,-0.625 0.425,-0.425 0.375,-0.425 0.375,-0.625
  rectangle: 0.425,-0.425 0.625,-0.375
  rectangle: 0.425,-0.625 0.625,-0.425
  region: 0.625,-0.625 0.425,-0.625 0.425,-0.675 0.625,-0.675
Mechanical 13:
  lines w0.1: -0.705,-0.705 -0.705,0.705 0.705,0.705 0.705,-0.705 -0.705,-0.705
Mechanical 15:
  lines w0.1: -0.5,0 0.5,0 ; 0,-0.5 0,0.5 ; -0.805,-0.805 -0.805,0.805 0.805,0.805 0.805,-0.805 -0.805,-0.805
3D body: height 0.58, standoff 0, extent -0.705,-0.705 0.705,0.705

## SMD50P3X3-1.41X1.95-8V [mm] "Micro SMD, 8-Leads, Body 1.95x1.41mm, Pitch 0.5mm, NSC Recommended"
height 0.58
pads (8):
  round 0.165 smd paste-0.082 mask+0.05: A1(-0.5,0.5) A2(0,0.5) A3(0.5,0.5) B1(-0.5,0) B3(0.5,0) C1(-0.5,-0.5) C2(0,-0.5) C3(0.5,-0.5)
Top Overlay:
  circle w0.1: c-0.82,1.07 r0.05
Top Paste:
  circle w0.05: c0.625,0.425 r0.025
  circle w0.05: c0.425,0.625 r0.025
  circle w0.05: c0.425,0.425 r0.025
  circle w0.05: c0.625,0.625 r0.025
  circle w0.05: c-0.425,0.425 r0.025
  circle w0.05: c-0.625,0.625 r0.025
  circle w0.05: c-0.625,0.425 r0.025
  circle w0.05: c-0.425,0.625 r0.025
  circle w0.05: c0.1,0.425 r0.025
  circle w0.05: c-0.1,0.625 r0.025
  circle w0.05: c-0.1,0.425 r0.025
  circle w0.05: c0.1,0.625 r0.025
  circle w0.05: c0.1,-0.425 r0.025
  circle w0.05: c-0.1,-0.625 r0.025
  circle w0.05: c-0.1,-0.425 r0.025
  circle w0.05: c0.1,-0.625 r0.025
  circle w0.05: c-0.425,-0.425 r0.025
  circle w0.05: c-0.625,-0.625 r0.025
  circle w0.05: c-0.625,-0.425 r0.025
  circle w0.05: c-0.425,-0.625 r0.025
  circle w0.05: c0.625,-0.425 r0.025
  circle w0.05: c0.425,-0.625 r0.025
  circle w0.05: c0.425,-0.425 r0.025
  circle w0.05: c0.625,-0.625 r0.025
  circle w0.05: c0.625,-0.1 r0.025
  circle w0.05: c0.425,0.1 r0.025
  circle w0.05: c0.425,-0.1 r0.025
  circle w0.05: c0.625,0.1 r0.025
  circle w0.05: c-0.425,0.1 r0.025
  circle w0.05: c-0.625,-0.1 r0.025
  circle w0.05: c-0.625,0.1 r0.025
  circle w0.05: c-0.425,-0.1 r0.025
  rectangle: 0.425,0.375 0.625,0.425
  region: 0.625,0.675 0.425,0.675 0.425,0.625 0.625,0.625
  region: 0.375,0.625 0.375,0.425 0.425,0.425 0.425,0.625
  region: 0.425,0.625 0.425,0.425 0.625,0.425 0.625,0.625
  region: 0.675,0.425 0.675,0.625 0.625,0.625 0.625,0.425
  rectangle: -0.625,0.375 -0.425,0.425
  region: -0.425,0.675 -0.625,0.675 -0.625,0.625 -0.425,0.625
  region: -0.675,0.625 -0.675,0.425 -0.625,0.425 -0.625,0.625
  region: -0.625,0.625 -0.625,0.425 -0.425,0.425 -0.425,0.625
  region: -0.375,0.425 -0.375,0.625 -0.425,0.625 -0.425,0.425
  rectangle: -0.1,0.375 0.1,0.425
  region: 0.1,0.675 -0.1,0.675 -0.1,0.625 0.1,0.625
  region: -0.15,0.625 -0.15,0.425 -0.1,0.425 -0.1,0.625
  region: -0.1,0.625 -0.1,0.425 0.1,0.425 0.1,0.625
  region: 0.15,0.425 0.15,0.625 0.1,0.625 0.1,0.425
  region: 0.15,-0.625 0.15,-0.425 0.1,-0.425 0.1,-0.625
  region: -0.1,-0.425 -0.1,-0.625 0.1,-0.625 0.1,-0.425
  region: -0.15,-0.425 -0.15,-0.625 -0.1,-0.625 -0.1,-0.425
  region: 0.1,-0.375 -0.1,-0.375 -0.1,-0.425 0.1,-0.425
  rectangle: -0.1,-0.675 0.1,-0.625
  region: -0.375,-0.625 -0.375,-0.425 -0.425,-0.425 -0.425,-0.625
  region: -0.625,-0.425 -0.625,-0.625 -0.425,-0.625 -0.425,-0.425
  region: -0.675,-0.425 -0.675,-0.625 -0.625,-0.625 -0.625,-0.425
  region: -0.425,-0.375 -0.625,-0.375 -0.625,-0.425 -0.425,-0.425
  rectangle: -0.625,-0.675 -0.425,-0.625
  region: 0.675,-0.625 0.675,-0.425 0.625,-0.425 0.625,-0.625
  region: 0.425,-0.425 0.425,-0.625 0.625,-0.625 0.625,-0.425
  region: 0.375,-0.425 0.375,-0.625 0.425,-0.625 0.425,-0.425
  region: 0.625,-0.375 0.425,-0.375 0.425,-0.425 0.625,-0.425
  rectangle: 0.425,-0.675 0.625,-0.625
  rectangle: 0.425,-0.15 0.625,-0.1
  region: 0.625,0.15 0.425,0.15 0.425,0.1 0.625,0.1
  region: 0.375,0.1 0.375,-0.1 0.425,-0.1 0.425,0.1
  region: 0.425,0.1 0.425,-0.1 0.625,-0.1 0.625,0.1
  region: 0.675,-0.1 0.675,0.1 0.625,0.1 0.625,-0.1
  region: -0.375,-0.1 -0.375,0.1 -0.425,0.1 -0.425,-0.1
  region: -0.625,0.1 -0.625,-0.1 -0.425,-0.1 -0.425,0.1
  region: -0.675,0.1 -0.675,-0.1 -0.625,-0.1 -0.625,0.1
  region: -0.425,0.15 -0.625,0.15 -0.625,0.1 -0.425,0.1
  rectangle: -0.625,-0.15 -0.425,-0.1
Mechanical 13:
  lines w0.1: -0.705,-0.975 0.705,-0.975 0.705,0.975 -0.705,0.975 -0.705,-0.975
Mechanical 15:
  lines w0.1: -0.5,0 0.5,0 ; 0,-0.5 0,0.5 ; -0.805,-1.075 0.805,-1.075 0.805,1.075 -0.805,1.075 -0.805,-1.075
3D body: height 0.58, standoff 0, extent -0.704,-0.974 0.704,0.974

## SMD50P3X3-1.47X1.47-9V [mm] "Micro SMD, 9-Leads, Body 1.47x1.47mm, Pitch 0.5mm, NSC Recommended"
height 0.68
pads (9):
  round 0.265 smd paste-0.132 mask+0.05: A1(-0.5,0.5) A2(0,0.5) A3(0.5,0.5) B1(-0.5,0) B2(0,0) B3(0.5,0) C1(-0.5,-0.5) C2(0,-0.5) C3(0.5,-0.5)
Top Overlay:
  circle w0.1: c-0.84,0.84 r0.05
Top Paste:
  circle w0.05: c0.075,-0.6 r0.025
  circle w0.05: c-0.075,-0.45 r0.025
  circle w0.05: c-0.075,-0.6 r0.025
  circle w0.05: c0.075,-0.45 r0.025
  circle w0.05: c-0.6,-0.075 r0.025
  circle w0.05: c-0.45,0.075 r0.025
  circle w0.05: c-0.6,0.075 r0.025
  circle w0.05: c-0.45,-0.075 r0.025
  circle w0.05: c-0.075,0.6 r0.025
  circle w0.05: c0.075,0.45 r0.025
  circle w0.05: c0.075,0.6 r0.025
  circle w0.05: c-0.075,0.45 r0.025
  circle w0.05: c0.6,0.075 r0.025
  circle w0.05: c0.45,-0.075 r0.025
  circle w0.05: c0.6,-0.075 r0.025
  circle w0.05: c0.45,0.075 r0.025
  circle w0.05: c-0.45,0.45 r0.025
  circle w0.05: c-0.6,0.6 r0.025
  circle w0.05: c-0.45,0.6 r0.025
  circle w0.05: c-0.6,0.45 r0.025
  circle w0.05: c-0.45,-0.45 r0.025
  circle w0.05: c-0.6,-0.6 r0.025
  circle w0.05: c-0.6,-0.45 r0.025
  circle w0.05: c-0.45,-0.6 r0.025
  circle w0.05: c0.45,-0.45 r0.025
  circle w0.05: c0.6,-0.6 r0.025
  circle w0.05: c0.45,-0.6 r0.025
  circle w0.05: c0.6,-0.45 r0.025
  circle w0.05: c0.45,0.45 r0.025
  circle w0.05: c0.6,0.6 r0.025
  circle w0.05: c0.6,0.45 r0.025
  circle w0.05: c0.45,0.6 r0.025
  circle w0.05: c0.075,-0.075 r0.025
  circle w0.05: c-0.075,0.075 r0.025
  circle w0.05: c-0.075,-0.075 r0.025
  circle w0.05: c0.075,0.075 r0.025
  rectangle: -0.075,-0.45 0.075,-0.4
  region: -0.075,-0.6 -0.075,-0.45 -0.125,-0.45 -0.125,-0.6
  region: 0.075,-0.6 -0.075,-0.6 -0.075,-0.65 0.075,-0.65
  region: 0.075,-0.45 0.075,-0.6 0.125,-0.6 0.125,-0.45
  region: 0.075,-0.6 0.075,-0.45 -0.075,-0.45 -0.075,-0.6
  region: -0.45,0.075 -0.45,-0.075 -0.4,-0.075 -0.4,0.075
  rectangle: -0.6,0.075 -0.45,0.125
  region: -0.6,-0.075 -0.6,0.075 -0.65,0.075 -0.65,-0.075
  region: -0.45,-0.075 -0.6,-0.075 -0.6,-0.125 -0.45,-0.125
  rectangle: -0.6,-0.075 -0.45,0.075
  region: 0.075,0.45 -0.075,0.45 -0.075,0.4 0.075,0.4
  region: 0.075,0.6 0.075,0.45 0.125,0.45 0.125,0.6
  rectangle: -0.075,0.6 0.075,0.65
  region: -0.075,0.45 -0.075,0.6 -0.125,0.6 -0.125,0.45
  region: -0.075,0.6 -0.075,0.45 0.075,0.45 0.075,0.6
  region: 0.45,-0.075 0.45,0.075 0.4,0.075 0.4,-0.075
  region: 0.6,-0.075 0.45,-0.075 0.45,-0.125 0.6,-0.125
  region: 0.6,0.075 0.6,-0.075 0.65,-0.075 0.65,0.075
  rectangle: 0.45,0.075 0.6,0.125
  region: 0.6,0.075 0.45,0.075 0.45,-0.075 0.6,-0.075
  rectangle: -0.6,0.45 -0.45,0.6
  region: -0.45,0.45 -0.6,0.45 -0.6,0.4 -0.45,0.4
  region: -0.6,0.45 -0.6,0.6 -0.65,0.6 -0.65,0.45
  rectangle: -0.6,0.6 -0.45,0.65
  region: -0.45,0.6 -0.45,0.45 -0.4,0.45 -0.4,0.6
  region: -0.45,-0.6 -0.45,-0.45 -0.6,-0.45 -0.6,-0.6
  region: -0.45,-0.45 -0.45,-0.6 -0.4,-0.6 -0.4,-0.45
  region: -0.45,-0.6 -0.6,-0.6 -0.6,-0.65 -0.45,-0.65
  region: -0.6,-0.6 -0.6,-0.45 -0.65,-0.45 -0.65,-0.6
  rectangle: -0.6,-0.45 -0.45,-0.4
  region: 0.6,-0.45 0.45,-0.45 0.45,-0.6 0.6,-0.6
  rectangle: 0.45,-0.45 0.6,-0.4
  region: 0.6,-0.45 0.6,-0.6 0.65,-0.6 0.65,-0.45
  region: 0.6,-0.6 0.45,-0.6 0.45,-0.65 0.6,-0.65
  region: 0.45,-0.6 0.45,-0.45 0.4,-0.45 0.4,-0.6
  region: 0.45,0.6 0.45,0.45 0.6,0.45 0.6,0.6
  region: 0.45,0.45 0.45,0.6 0.4,0.6 0.4,0.45
  rectangle: 0.45,0.6 0.6,0.65
  region: 0.6,0.6 0.6,0.45 0.65,0.45 0.65,0.6
  region: 0.6,0.45 0.45,0.45 0.45,0.4 0.6,0.4
  region: -0.075,0.075 -0.075,-0.075 0.075,-0.075 0.075,0.075
  region: 0.125,-0.075 0.125,0.075 0.075,0.075 0.075,-0.075
  region: 0.075,0.125 -0.075,0.125 -0.075,0.075 0.075,0.075
  region: -0.125,0.075 -0.125,-0.075 -0.075,-0.075 -0.075,0.075
  rectangle: -0.075,-0.125 0.075,-0.075
Mechanical 13:
  lines w0.1: -0.735,-0.735 0.735,-0.735 0.735,0.735 -0.735,0.735 -0.735,-0.735
Mechanical 15:
  lines w0.1: -0.5,0 0.5,0 ; 0,-0.5 0,0.5 ; -0.835,-0.835 0.835,-0.835 0.835,0.835 -0.835,0.835 -0.835,-0.835
3D body: height 0.68, standoff 0, extent -0.734,-0.734 0.734,0.734

## SMD50P3X3-1.49X1.49-9V [mm] "Micro SMD, 9-Leads, Body 1.49x1.49mm, Pitch 0.5mm, NSC Recommended"
height 0.68
pads (9):
  round 0.265 smd paste-0.132 mask+0.05: A1(-0.5,0.5) A2(0,0.5) A3(0.5,0.5) B1(-0.5,0) B2(0,0) B3(0.5,0) C1(-0.5,-0.5) C2(0,-0.5) C3(0.5,-0.5)
Top Overlay:
  circle w0.1: c-0.85,0.85 r0.05
Top Paste:
  circle w0.05: c-0.6,-0.075 r0.025
  circle w0.05: c-0.45,0.075 r0.025
  circle w0.05: c-0.6,0.075 r0.025
  circle w0.05: c-0.45,-0.075 r0.025
  circle w0.05: c-0.075,0.6 r0.025
  circle w0.05: c0.075,0.45 r0.025
  circle w0.05: c0.075,0.6 r0.025
  circle w0.05: c-0.075,0.45 r0.025
  circle w0.05: c0.6,0.075 r0.025
  circle w0.05: c0.45,-0.075 r0.025
  circle w0.05: c0.6,-0.075 r0.025
  circle w0.05: c0.45,0.075 r0.025
  circle w0.05: c0.075,-0.6 r0.025
  circle w0.05: c-0.075,-0.45 r0.025
  circle w0.05: c-0.075,-0.6 r0.025
  circle w0.05: c0.075,-0.45 r0.025
  circle w0.05: c0.45,0.45 r0.025
  circle w0.05: c0.6,0.6 r0.025
  circle w0.05: c0.6,0.45 r0.025
  circle w0.05: c0.45,0.6 r0.025
  circle w0.05: c-0.45,0.45 r0.025
  circle w0.05: c-0.6,0.6 r0.025
  circle w0.05: c-0.45,0.6 r0.025
  circle w0.05: c-0.6,0.45 r0.025
  circle w0.05: c-0.45,-0.45 r0.025
  circle w0.05: c-0.6,-0.6 r0.025
  circle w0.05: c-0.6,-0.45 r0.025
  circle w0.05: c-0.45,-0.6 r0.025
  circle w0.05: c0.45,-0.45 r0.025
  circle w0.05: c0.6,-0.6 r0.025
  circle w0.05: c0.45,-0.6 r0.025
  circle w0.05: c0.6,-0.45 r0.025
  circle w0.05: c0.075,-0.075 r0.025
  circle w0.05: c-0.075,0.075 r0.025
  circle w0.05: c-0.075,-0.075 r0.025
  circle w0.05: c0.075,0.075 r0.025
  region: -0.45,0.075 -0.45,-0.075 -0.4,-0.075 -0.4,0.075
  rectangle: -0.6,0.075 -0.45,0.125
  region: -0.6,-0.075 -0.6,0.075 -0.65,0.075 -0.65,-0.075
  region: -0.45,-0.075 -0.6,-0.075 -0.6,-0.125 -0.45,-0.125
  rectangle: -0.6,-0.075 -0.45,0.075
  region: 0.075,0.45 -0.075,0.45 -0.075,0.4 0.075,0.4
  region: 0.075,0.6 0.075,0.45 0.125,0.45 0.125,0.6
  rectangle: -0.075,0.6 0.075,0.65
  region: -0.075,0.45 -0.075,0.6 -0.125,0.6 -0.125,0.45
  region: -0.075,0.6 -0.075,0.45 0.075,0.45 0.075,0.6
  region: 0.45,-0.075 0.45,0.075 0.4,0.075 0.4,-0.075
  region: 0.6,-0.075 0.45,-0.075 0.45,-0.125 0.6,-0.125
  region: 0.6,0.075 0.6,-0.075 0.65,-0.075 0.65,0.075
  rectangle: 0.45,0.075 0.6,0.125
  region: 0.6,0.075 0.45,0.075 0.45,-0.075 0.6,-0.075
  rectangle: -0.075,-0.45 0.075,-0.4
  region: -0.075,-0.6 -0.075,-0.45 -0.125,-0.45 -0.125,-0.6
  region: 0.075,-0.6 -0.075,-0.6 -0.075,-0.65 0.075,-0.65
  region: 0.075,-0.45 0.075,-0.6 0.125,-0.6 0.125,-0.45
  region: 0.075,-0.6 0.075,-0.45 -0.075,-0.45 -0.075,-0.6
  region: 0.45,0.6 0.45,0.45 0.6,0.45 0.6,0.6
  region: 0.45,0.45 0.45,0.6 0.4,0.6 0.4,0.45
  rectangle: 0.45,0.6 0.6,0.65
  region: 0.6,0.6 0.6,0.45 0.65,0.45 0.65,0.6
  region: 0.6,0.45 0.45,0.45 0.45,0.4 0.6,0.4
  rectangle: -0.6,0.45 -0.45,0.6
  region: -0.45,0.45 -0.6,0.45 -0.6,0.4 -0.45,0.4
  region: -0.6,0.45 -0.6,0.6 -0.65,0.6 -0.65,0.45
  rectangle: -0.6,0.6 -0.45,0.65
  region: -0.45,0.6 -0.45,0.45 -0.4,0.45 -0.4,0.6
  region: -0.45,-0.6 -0.45,-0.45 -0.6,-0.45 -0.6,-0.6
  region: -0.45,-0.45 -0.45,-0.6 -0.4,-0.6 -0.4,-0.45
  region: -0.45,-0.6 -0.6,-0.6 -0.6,-0.65 -0.45,-0.65
  region: -0.6,-0.6 -0.6,-0.45 -0.65,-0.45 -0.65,-0.6
  rectangle: -0.6,-0.45 -0.45,-0.4
  region: 0.6,-0.45 0.45,-0.45 0.45,-0.6 0.6,-0.6
  rectangle: 0.45,-0.45 0.6,-0.4
  region: 0.6,-0.45 0.6,-0.6 0.65,-0.6 0.65,-0.45
  region: 0.6,-0.6 0.45,-0.6 0.45,-0.65 0.6,-0.65
  region: 0.45,-0.6 0.45,-0.45 0.4,-0.45 0.4,-0.6
  region: -0.075,0.075 -0.075,-0.075 0.075,-0.075 0.075,0.075
  region: 0.125,-0.075 0.125,0.075 0.075,0.075 0.075,-0.075
  region: 0.075,0.125 -0.075,0.125 -0.075,0.075 0.075,0.075
  region: -0.125,0.075 -0.125,-0.075 -0.075,-0.075 -0.075,0.075
  rectangle: -0.075,-0.125 0.075,-0.075
Mechanical 13:
  lines w0.1: -0.745,-0.745 0.745,-0.745 0.745,0.745 -0.745,0.745 -0.745,-0.745
Mechanical 15:
  lines w0.1: -0.5,0 0.5,0 ; 0,-0.5 0,0.5 ; -0.845,-0.845 0.845,-0.845 0.845,0.845 -0.845,0.845 -0.845,-0.845
3D body: height 0.68, standoff 0, extent -0.744,-0.744 0.744,0.744